# EAGLE library part 15P (library con-degson)
DEGSON DG55 CONNECTOR
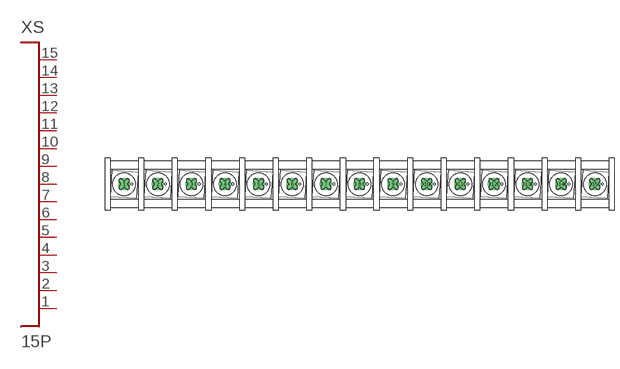
[diagram p9: symbol with the pads of DG55CB-15P-1; footprint DG55CB-15P-1]

Designator prefix XS

## 15P  [DG55CB-15P-1]
1  P$1
2  P$2
3  P$3
4  P$4
5  P$5
6  P$6
7  P$7
8  P$8
9  P$9
10  P$10
11  P$11
12  P$12
13  P$13
14  P$14
15  P$15

## Footprint DG55CB-15P-1 (pad centres in mm)
DG55
drill 1.8 pad 3.6: 1 -70,0; 2 -60,0; 3 -50,0; 4 -40,0; 5 -30,0; 6 -20,0; 7 -10,0; 8 0,0; 9 10,0; 10 20,0; 11 30,0; 12 40,0; 13 50,0; 14 60,0; 15 70,0